# Altium integrated library Newport Power Mgt DC-DC Converter.IntLib: 312 symbols (part 2 of 5)
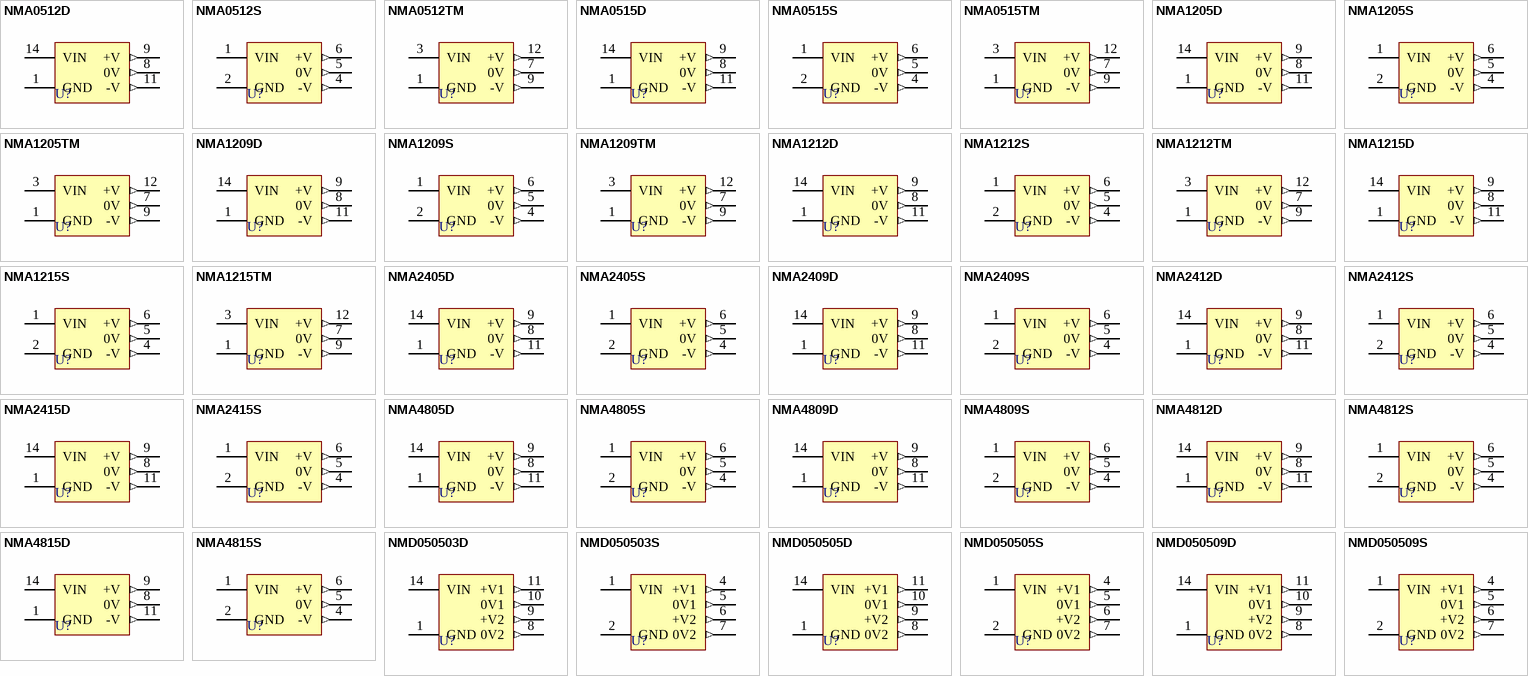
[diagram p8: symbols NMA0512D to NMD050509S]

## NMA2412D
designator U?
Isolated 1W Dual Output; Note: Pin 7 is No Internal Connection (NC) pin and is not drawn. Pins 2-6, 10, 12 and 13 are not present.; Published: 8-Jun-2000; LatestRevisionDate: 17-Jul-2002; LatestRevisionNote: PCB footprint, 'DIP-P6(14)/X1.2' replaced; Re-released for DXP Platform.; DatasheetVersion: Jul-1996; PackageVersion: 1996; PackageReference: NPDIP14; Publisher: Altium Limited; PackageDescription: DIP; 14 Rectangular pins (8 Absent); Row Space 7.62 mm; Pitch 2.54 mm; ComponentLink1Description: Manufacturer Link; ComponentLink1URL: http://www.dc-dc.com/; ComponentLink2Description: Datasheet; ComponentLink2URL: http://www.cd4power.com/data/power/ncl/ndc_nma_3.pdf
footprint NPDIP14 (DIP; 14 Rectangular pins (8 Absent); Row Space 7.62 mm; Pitch 2.54 mm)
pins: 1 GND (power), 8 0V (out), 9 +V (out), 11 -V (out), 14 VIN (power)

## NMA2412S
designator U?
Isolated 1W Dual Output; Note: Pins 3 and 7 are not present.; Published: 8-Jun-2000; LatestRevisionDate: 17-Jul-2002; LatestRevisionNote: Re-released for DXP Platform.; DatasheetVersion: Jul-1996; PackageVersion: 1996; PackageReference: NPSIP7; Publisher: Altium Limited; PackageDescription: SIP; 7 Leads (2 Absent); Body 19.5 x 6 mm (LxW typ); Pitch 2.54 mm; ComponentLink1Description: Manufacturer Link; ComponentLink1URL: http://www.dc-dc.com/; ComponentLink2Description: Datasheet; ComponentLink2URL: http://www.cd4power.com/data/power/ncl/ndc_nma_3.pdf
footprint NPSIP7 (SIP; 7 Leads (2 Absent); Body 19.5 x 6 mm (LxW typ); Pitch 2.54 mm)
pins: 1 VIN (power), 2 GND (power), 4 -V (out), 5 0V (out), 6 +V (out)

## NMA2415D
designator U?
Isolated 1W Dual Output; Note: Pin 7 is No Internal Connection (NC) pin and is not drawn. Pins 2-6, 10, 12 and 13 are not present.; Published: 8-Jun-2000; LatestRevisionDate: 17-Jul-2002; LatestRevisionNote: PCB footprint, 'DIP-P6(14)/X1.2' replaced; Re-released for DXP Platform.; DatasheetVersion: Jul-1996; PackageVersion: 1996; PackageReference: NPDIP14; Publisher: Altium Limited; PackageDescription: DIP; 14 Rectangular pins (8 Absent); Row Space 7.62 mm; Pitch 2.54 mm; ComponentLink1Description: Manufacturer Link; ComponentLink1URL: http://www.dc-dc.com/; ComponentLink2Description: Datasheet; ComponentLink2URL: http://www.cd4power.com/data/power/ncl/ndc_nma_3.pdf
footprint NPDIP14 (DIP; 14 Rectangular pins (8 Absent); Row Space 7.62 mm; Pitch 2.54 mm)
pins: 1 GND (power), 8 0V (out), 9 +V (out), 11 -V (out), 14 VIN (power)

## NMA2415S
designator U?
Isolated 1W Dual Output; Note: Pins 3 and 7 are not present.; Published: 8-Jun-2000; LatestRevisionDate: 17-Jul-2002; LatestRevisionNote: Re-released for DXP Platform.; DatasheetVersion: Jul-1996; PackageVersion: 1996; PackageReference: NPSIP7; Publisher: Altium Limited; PackageDescription: SIP; 7 Leads (2 Absent); Body 19.5 x 6 mm (LxW typ); Pitch 2.54 mm; ComponentLink1Description: Manufacturer Link; ComponentLink1URL: http://www.dc-dc.com/; ComponentLink2Description: Datasheet; ComponentLink2URL: http://www.cd4power.com/data/power/ncl/ndc_nma_3.pdf
footprint NPSIP7 (SIP; 7 Leads (2 Absent); Body 19.5 x 6 mm (LxW typ); Pitch 2.54 mm)
pins: 1 VIN (power), 2 GND (power), 4 -V (out), 5 0V (out), 6 +V (out)

## NMA4805D
designator U?
Isolated 1W Dual Output; Note: Pin 7 is No Internal Connection (NC) pin and is not drawn. Pins 2-6, 10, 12 and 13 are not present.; Published: 8-Jun-2000; LatestRevisionDate: 17-Jul-2002; LatestRevisionNote: PCB footprint, 'DIP-P6(14)/X1.2' replaced; Re-released for DXP Platform.; DatasheetVersion: Jul-1996; PackageVersion: 1996; PackageReference: NPDIP14A; Publisher: Altium Limited; PackageDescription: DIP; 14 Rectangular pins (8 Absent); Row Space 7.62 mm; Pitch 2.54 mm; ComponentLink1Description: Manufacturer Link; ComponentLink1URL: http://www.dc-dc.com/; ComponentLink2Description: Datasheet; ComponentLink2URL: http://www.cd4power.com/data/power/ncl/ndc_nma_3.pdf
footprint NPDIP14A (DIP; 14 Rectangular pins (8 Absent); Row Space 7.62 mm; Pitch 2.54 mm)
pins: 1 GND (power), 8 0V (out), 9 +V (out), 11 -V (out), 14 VIN (power)

## NMA4805S
designator U?
Isolated 1W Dual Output; Note: Pins 3 and 7 are not present.; Published: 8-Jun-2000; LatestRevisionDate: 17-Jul-2002; LatestRevisionNote: Re-released for DXP Platform.; DatasheetVersion: Jul-1996; PackageVersion: 1996; PackageReference: NPSIP7A; Publisher: Altium Limited; PackageDescription: SIP; 7 Leads (2 Absent); Body 19.5 x 7.6 mm (LxW typ); Pitch 2.54 mm; ComponentLink1Description: Manufacturer Link; ComponentLink1URL: http://www.dc-dc.com/; ComponentLink2Description: Datasheet; ComponentLink2URL: http://www.cd4power.com/data/power/ncl/ndc_nma_3.pdf
footprint NPSIP7A (SIP; 7 Leads (2 Absent); Body 19.5 x 7.6 mm (LxW typ); Pitch 2.54 mm)
pins: 1 VIN (power), 2 GND (power), 4 -V (out), 5 0V (out), 6 +V (out)

## NMA4809D
designator U?
Isolated 1W Dual Output; Note: Pin 7 is No Internal Connection (NC) pin and is not drawn. Pins 2-6, 10, 12 and 13 are not present.; Published: 8-Jun-2000; LatestRevisionDate: 17-Jul-2002; LatestRevisionNote: PCB footprint, 'DIP-P6(14)/X1.2' replaced; Re-released for DXP Platform.; DatasheetVersion: Jul-1996; PackageVersion: 1996; PackageReference: NPDIP14A; Publisher: Altium Limited; PackageDescription: DIP; 14 Rectangular pins (8 Absent); Row Space 7.62 mm; Pitch 2.54 mm; ComponentLink1Description: Manufacturer Link; ComponentLink1URL: http://www.dc-dc.com/; ComponentLink2Description: Datasheet; ComponentLink2URL: http://www.cd4power.com/data/power/ncl/ndc_nma_3.pdf
footprint NPDIP14A (DIP; 14 Rectangular pins (8 Absent); Row Space 7.62 mm; Pitch 2.54 mm)
pins: 1 GND (power), 8 0V (out), 9 +V (out), 11 -V (out), 14 VIN (power)

## NMA4809S
designator U?
Isolated 1W Dual Output; Note: Pins 3 and 7 are not present.; Published: 8-Jun-2000; LatestRevisionDate: 17-Jul-2002; LatestRevisionNote: Re-released for DXP Platform.; DatasheetVersion: Jul-1996; PackageVersion: 1996; PackageReference: NPSIP7A; Publisher: Altium Limited; PackageDescription: SIP; 7 Leads (2 Absent); Body 19.5 x 7.6 mm (LxW typ); Pitch 2.54 mm; ComponentLink1Description: Manufacturer Link; ComponentLink1URL: http://www.dc-dc.com/; ComponentLink2Description: Datasheet; ComponentLink2URL: http://www.cd4power.com/data/power/ncl/ndc_nma_3.pdf
footprint NPSIP7A (SIP; 7 Leads (2 Absent); Body 19.5 x 7.6 mm (LxW typ); Pitch 2.54 mm)
pins: 1 VIN (power), 2 GND (power), 4 -V (out), 5 0V (out), 6 +V (out)

## NMA4812D
designator U?
Isolated 1W Dual Output; Note: Pin 7 is No Internal Connection (NC) pin and is not drawn. Pins 2-6, 10, 12 and 13 are not present.; Published: 8-Jun-2000; LatestRevisionDate: 17-Jul-2002; LatestRevisionNote: PCB footprint, 'DIP-P6(14)/X1.2' replaced; Re-released for DXP Platform.; DatasheetVersion: Jul-1996; PackageVersion: 1996; PackageReference: NPDIP14A; Publisher: Altium Limited; PackageDescription: DIP; 14 Rectangular pins (8 Absent); Row Space 7.62 mm; Pitch 2.54 mm; ComponentLink1Description: Manufacturer Link; ComponentLink1URL: http://www.dc-dc.com/; ComponentLink2Description: Datasheet; ComponentLink2URL: http://www.cd4power.com/data/power/ncl/ndc_nma_3.pdf
footprint NPDIP14A (DIP; 14 Rectangular pins (8 Absent); Row Space 7.62 mm; Pitch 2.54 mm)
pins: 1 GND (power), 8 0V (out), 9 +V (out), 11 -V (out), 14 VIN (power)

## NMA4812S
designator U?
Isolated 1W Dual Output; Note: Pins 3 and 7 are not present.; Published: 8-Jun-2000; LatestRevisionDate: 17-Jul-2002; LatestRevisionNote: Re-released for DXP Platform.; DatasheetVersion: Jul-1996; PackageVersion: 1996; PackageReference: NPSIP7A; Publisher: Altium Limited; PackageDescription: SIP; 7 Leads (2 Absent); Body 19.5 x 7.6 mm (LxW typ); Pitch 2.54 mm; ComponentLink1Description: Manufacturer Link; ComponentLink1URL: http://www.dc-dc.com/; ComponentLink2Description: Datasheet; ComponentLink2URL: http://www.cd4power.com/data/power/ncl/ndc_nma_3.pdf
footprint NPSIP7A (SIP; 7 Leads (2 Absent); Body 19.5 x 7.6 mm (LxW typ); Pitch 2.54 mm)
pins: 1 VIN (power), 2 GND (power), 4 -V (out), 5 0V (out), 6 +V (out)

## NMA4815D
designator U?
Isolated 1W Dual Output; Note: Pin 7 is No Internal Connection (NC) pin and is not drawn. Pins 2-6, 10, 12 and 13 are not present.; Published: 8-Jun-2000; LatestRevisionDate: 17-Jul-2002; LatestRevisionNote: PCB footprint, 'DIP-P6(14)/X1.2' replaced; Re-released for DXP Platform.; DatasheetVersion: Jul-1996; PackageVersion: 1996; PackageReference: NPDIP14A; Publisher: Altium Limited; PackageDescription: DIP; 14 Rectangular pins (8 Absent); Row Space 7.62 mm; Pitch 2.54 mm; ComponentLink1Description: Manufacturer Link; ComponentLink1URL: http://www.dc-dc.com/; ComponentLink2Description: Datasheet; ComponentLink2URL: http://www.cd4power.com/data/power/ncl/ndc_nma_3.pdf
footprint NPDIP14A (DIP; 14 Rectangular pins (8 Absent); Row Space 7.62 mm; Pitch 2.54 mm)
pins: 1 GND (power), 8 0V (out), 9 +V (out), 11 -V (out), 14 VIN (power)

## NMA4815S
designator U?
Isolated 1W Dual Output; Note: Pins 3 and 7 are not present.; Published: 8-Jun-2000; LatestRevisionDate: 17-Jul-2002; LatestRevisionNote: Re-released for DXP Platform.; DatasheetVersion: Jul-1996; PackageVersion: 1996; PackageReference: NPSIP7A; Publisher: Altium Limited; PackageDescription: SIP; 7 Leads (2 Absent); Body 19.5 x 7.6 mm (LxW typ); Pitch 2.54 mm; ComponentLink1Description: Manufacturer Link; ComponentLink1URL: http://www.dc-dc.com/; ComponentLink2Description: Datasheet; ComponentLink2URL: http://www.cd4power.com/data/power/ncl/ndc_nma_3.pdf
footprint NPSIP7A (SIP; 7 Leads (2 Absent); Body 19.5 x 7.6 mm (LxW typ); Pitch 2.54 mm)
pins: 1 VIN (power), 2 GND (power), 4 -V (out), 5 0V (out), 6 +V (out)

## NMD050503D
designator U?
Isolated 1W Twin Output; Note: Pin 7 is No Internal Connection (NC) pin and is not drawn. Pins 2-6, 12 and 13 are not present.; Published: 8-Jun-2000; LatestRevisionDate: 17-Jul-2002; LatestRevisionNote: Re-released for DXP Platform.; DatasheetVersion: Jul-1996; PackageVersion: 1996; PackageReference: NPDIP14B; Publisher: Altium Limited; PackageDescription: DIP; 14 Rectangular pins (7 Absent); Row Space 7.62 mm; Pitch 2.54 mm; ComponentLink1Description: Manufacturer Link; ComponentLink1URL: http://www.dc-dc.com/; ComponentLink2Description: Datasheet; ComponentLink2URL: http://www.cd4power.com/data/power/ncl/ndc_nmd_3.pdf
footprint NPDIP14B (DIP; 14 Rectangular pins (7 Absent); Row Space 7.62 mm; Pitch 2.54 mm)
pins: 1 GND (power), 8 0V2 (out), 9 +V2 (out), 10 0V1 (out), 11 +V1 (out), 14 VIN (power)

## NMD050503S
designator U?
Isolated 1W Twin Output; Note: Pin 3 is not present.; Published: 8-Jun-2000; LatestRevisionDate: 17-Jul-2002; LatestRevisionNote: Re-released for DXP Platform.; DatasheetVersion: Jul-1996; PackageVersion: 1996; PackageReference: NPSIP7B; Publisher: Altium Limited; PackageDescription: SIP; 7 Leads (1 Absent); Body 19.5 x 6 mm (LxW typ); Pitch 2.54 mm; ComponentLink1Description: Manufacturer Link; ComponentLink1URL: http://www.dc-dc.com/; ComponentLink2Description: Datasheet; ComponentLink2URL: http://www.cd4power.com/data/power/ncl/ndc_nmd_3.pdf
footprint NPSIP7B (SIP; 7 Leads (1 Absent); Body 19.5 x 6 mm (LxW typ); Pitch 2.54 mm)
pins: 1 VIN (power), 2 GND (power), 4 +V1 (out), 5 0V1 (out), 6 +V2 (out), 7 0V2 (out)

## NMD050505D
designator U?
Isolated 1W Twin Output; Note: Pin 7 is No Internal Connection (NC) pin and is not drawn. Pins 2-6, 12 and 13 are not present.; Published: 8-Jun-2000; LatestRevisionDate: 17-Jul-2002; LatestRevisionNote: Re-released for DXP Platform.; DatasheetVersion: Jul-1996; PackageVersion: 1996; PackageReference: NPDIP14B; Publisher: Altium Limited; PackageDescription: DIP; 14 Rectangular pins (7 Absent); Row Space 7.62 mm; Pitch 2.54 mm; ComponentLink1Description: Manufacturer Link; ComponentLink1URL: http://www.dc-dc.com/; ComponentLink2Description: Datasheet; ComponentLink2URL: http://www.cd4power.com/data/power/ncl/ndc_nmd_3.pdf
footprint NPDIP14B (DIP; 14 Rectangular pins (7 Absent); Row Space 7.62 mm; Pitch 2.54 mm)
pins: 1 GND (power), 8 0V2 (out), 9 +V2 (out), 10 0V1 (out), 11 +V1 (out), 14 VIN (power)

## NMD050505S
designator U?
Isolated 1W Twin Output; Note: Pin 3 is not present.; Published: 8-Jun-2000; LatestRevisionDate: 17-Jul-2002; LatestRevisionNote: Re-released for DXP Platform.; DatasheetVersion: Jul-1996; PackageVersion: 1996; PackageReference: NPSIP7B; Publisher: Altium Limited; PackageDescription: SIP; 7 Leads (1 Absent); Body 19.5 x 6 mm (LxW typ); Pitch 2.54 mm; ComponentLink1Description: Manufacturer Link; ComponentLink1URL: http://www.dc-dc.com/; ComponentLink2Description: Datasheet; ComponentLink2URL: http://www.cd4power.com/data/power/ncl/ndc_nmd_3.pdf
footprint NPSIP7B (SIP; 7 Leads (1 Absent); Body 19.5 x 6 mm (LxW typ); Pitch 2.54 mm)
pins: 1 VIN (power), 2 GND (power), 4 +V1 (out), 5 0V1 (out), 6 +V2 (out), 7 0V2 (out)

## NMD050509D
designator U?
Isolated 1W Twin Output; Note: Pin 7 is No Internal Connection (NC) pin and is not drawn. Pins 2-6, 12 and 13 are not present.; Published: 8-Jun-2000; LatestRevisionDate: 17-Jul-2002; LatestRevisionNote: Re-released for DXP Platform.; DatasheetVersion: Jul-1996; PackageVersion: 1996; PackageReference: NPDIP14B; Publisher: Altium Limited; PackageDescription: DIP; 14 Rectangular pins (7 Absent); Row Space 7.62 mm; Pitch 2.54 mm; ComponentLink1Description: Manufacturer Link; ComponentLink1URL: http://www.dc-dc.com/; ComponentLink2Description: Datasheet; ComponentLink2URL: http://www.cd4power.com/data/power/ncl/ndc_nmd_3.pdf
footprint NPDIP14B (DIP; 14 Rectangular pins (7 Absent); Row Space 7.62 mm; Pitch 2.54 mm)
pins: 1 GND (power), 8 0V2 (out), 9 +V2 (out), 10 0V1 (out), 11 +V1 (out), 14 VIN (power)

## NMD050509S
designator U?
Isolated 1W Twin Output; Note: Pin 3 is not present.; Published: 8-Jun-2000; LatestRevisionDate: 17-Jul-2002; LatestRevisionNote: Re-released for DXP Platform.; DatasheetVersion: Jul-1996; PackageVersion: 1996; PackageReference: NPSIP7B; Publisher: Altium Limited; PackageDescription: SIP; 7 Leads (1 Absent); Body 19.5 x 6 mm (LxW typ); Pitch 2.54 mm; ComponentLink1Description: Manufacturer Link; ComponentLink1URL: http://www.dc-dc.com/; ComponentLink2Description: Datasheet; ComponentLink2URL: http://www.cd4power.com/data/power/ncl/ndc_nmd_3.pdf
footprint NPSIP7B (SIP; 7 Leads (1 Absent); Body 19.5 x 6 mm (LxW typ); Pitch 2.54 mm)
pins: 1 VIN (power), 2 GND (power), 4 +V1 (out), 5 0V1 (out), 6 +V2 (out), 7 0V2 (out)

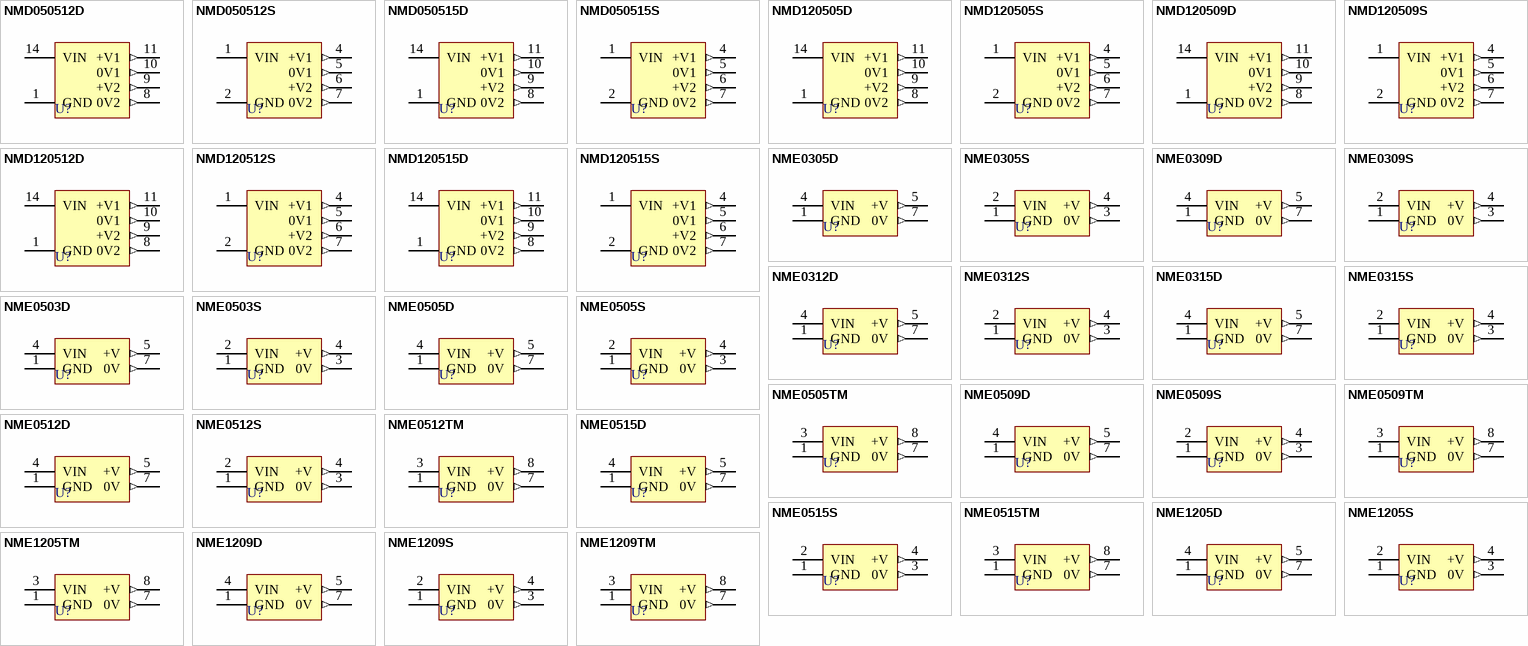
[diagram p2: symbols NMD050512D to NME1209TM]

## NMD050512D
designator U?
Isolated 1W Twin Output; Note: Pin 7 is No Internal Connection (NC) pin and is not drawn. Pins 2-6, 12 and 13 are not present.; Published: 8-Jun-2000; LatestRevisionDate: 17-Jul-2002; LatestRevisionNote: Re-released for DXP Platform.; DatasheetVersion: Jul-1996; PackageVersion: 1996; PackageReference: NPDIP14B; Publisher: Altium Limited; PackageDescription: DIP; 14 Rectangular pins (7 Absent); Row Space 7.62 mm; Pitch 2.54 mm; ComponentLink1Description: Manufacturer Link; ComponentLink1URL: http://www.dc-dc.com/; ComponentLink2Description: Datasheet; ComponentLink2URL: http://www.cd4power.com/data/power/ncl/ndc_nmd_3.pdf
footprint NPDIP14B (DIP; 14 Rectangular pins (7 Absent); Row Space 7.62 mm; Pitch 2.54 mm)
pins: 1 GND (power), 8 0V2 (out), 9 +V2 (out), 10 0V1 (out), 11 +V1 (out), 14 VIN (power)

## NMD050512S
designator U?
Isolated 1W Twin Output; Note: Pin 3 is not present.; Published: 8-Jun-2000; LatestRevisionDate: 17-Jul-2002; LatestRevisionNote: Re-released for DXP Platform.; DatasheetVersion: Jul-1996; PackageVersion: 1996; PackageReference: NPSIP7B; Publisher: Altium Limited; PackageDescription: SIP; 7 Leads (1 Absent); Body 19.5 x 6 mm (LxW typ); Pitch 2.54 mm; ComponentLink1Description: Manufacturer Link; ComponentLink1URL: http://www.dc-dc.com/; ComponentLink2Description: Datasheet; ComponentLink2URL: http://www.cd4power.com/data/power/ncl/ndc_nmd_3.pdf
footprint NPSIP7B (SIP; 7 Leads (1 Absent); Body 19.5 x 6 mm (LxW typ); Pitch 2.54 mm)
pins: 1 VIN (power), 2 GND (power), 4 +V1 (out), 5 0V1 (out), 6 +V2 (out), 7 0V2 (out)

## NMD050515D
designator U?
Isolated 1W Twin Output; Note: Pin 7 is No Internal Connection (NC) pin and is not drawn. Pins 2-6, 12 and 13 are not present.; Published: 8-Jun-2000; LatestRevisionDate: 17-Jul-2002; LatestRevisionNote: Re-released for DXP Platform.; DatasheetVersion: Jul-1996; PackageVersion: 1996; PackageReference: NPDIP14B; Publisher: Altium Limited; PackageDescription: DIP; 14 Rectangular pins (7 Absent); Row Space 7.62 mm; Pitch 2.54 mm; ComponentLink1Description: Manufacturer Link; ComponentLink1URL: http://www.dc-dc.com/; ComponentLink2Description: Datasheet; ComponentLink2URL: http://www.cd4power.com/data/power/ncl/ndc_nmd_3.pdf
footprint NPDIP14B (DIP; 14 Rectangular pins (7 Absent); Row Space 7.62 mm; Pitch 2.54 mm)
pins: 1 GND (power), 8 0V2 (out), 9 +V2 (out), 10 0V1 (out), 11 +V1 (out), 14 VIN (power)

## NMD050515S
designator U?
Isolated 1W Twin Output; Note: Pin 3 is not present.; Published: 8-Jun-2000; LatestRevisionDate: 17-Jul-2002; LatestRevisionNote: Re-released for DXP Platform.; DatasheetVersion: Jul-1996; PackageVersion: 1996; PackageReference: NPSIP7B; Publisher: Altium Limited; PackageDescription: SIP; 7 Leads (1 Absent); Body 19.5 x 6 mm (LxW typ); Pitch 2.54 mm; ComponentLink1Description: Manufacturer Link; ComponentLink1URL: http://www.dc-dc.com/; ComponentLink2Description: Datasheet; ComponentLink2URL: http://www.cd4power.com/data/power/ncl/ndc_nmd_3.pdf
footprint NPSIP7B (SIP; 7 Leads (1 Absent); Body 19.5 x 6 mm (LxW typ); Pitch 2.54 mm)
pins: 1 VIN (power), 2 GND (power), 4 +V1 (out), 5 0V1 (out), 6 +V2 (out), 7 0V2 (out)

## NMD120505D
designator U?
Isolated 1W Twin Output; Note: Pin 7 is No Internal Connection (NC) pin and is not drawn. Pins 2-6, 12 and 13 are not present.; Published: 8-Jun-2000; LatestRevisionDate: 17-Jul-2002; LatestRevisionNote: Re-released for DXP Platform.; DatasheetVersion: Jul-1996; PackageVersion: 1996; PackageReference: NPDIP14B; Publisher: Altium Limited; PackageDescription: DIP; 14 Rectangular pins (7 Absent); Row Space 7.62 mm; Pitch 2.54 mm; ComponentLink1Description: Manufacturer Link; ComponentLink1URL: http://www.dc-dc.com/; ComponentLink2Description: Datasheet; ComponentLink2URL: http://www.cd4power.com/data/power/ncl/ndc_nmd_3.pdf
footprint NPDIP14B (DIP; 14 Rectangular pins (7 Absent); Row Space 7.62 mm; Pitch 2.54 mm)
pins: 1 GND (power), 8 0V2 (out), 9 +V2 (out), 10 0V1 (out), 11 +V1 (out), 14 VIN (power)

## NMD120505S
designator U?
Isolated 1W Twin Output; Note: Pin 3 is not present.; Published: 8-Jun-2000; LatestRevisionDate: 17-Jul-2002; LatestRevisionNote: Re-released for DXP Platform.; DatasheetVersion: Jul-1996; PackageVersion: 1996; PackageReference: NPSIP7B; Publisher: Altium Limited; PackageDescription: SIP; 7 Leads (1 Absent); Body 19.5 x 6 mm (LxW typ); Pitch 2.54 mm; ComponentLink1Description: Manufacturer Link; ComponentLink1URL: http://www.dc-dc.com/; ComponentLink2Description: Datasheet; ComponentLink2URL: http://www.cd4power.com/data/power/ncl/ndc_nmd_3.pdf
footprint NPSIP7B (SIP; 7 Leads (1 Absent); Body 19.5 x 6 mm (LxW typ); Pitch 2.54 mm)
pins: 1 VIN (power), 2 GND (power), 4 +V1 (out), 5 0V1 (out), 6 +V2 (out), 7 0V2 (out)

## NMD120509D
designator U?
Isolated 1W Twin Output; Note: Pin 7 is No Internal Connection (NC) pin and is not drawn. Pins 2-6, 12 and 13 are not present.; Published: 8-Jun-2000; LatestRevisionDate: 17-Jul-2002; LatestRevisionNote: Re-released for DXP Platform.; DatasheetVersion: Jul-1996; PackageVersion: 1996; PackageReference: NPDIP14B; Publisher: Altium Limited; PackageDescription: DIP; 14 Rectangular pins (7 Absent); Row Space 7.62 mm; Pitch 2.54 mm; ComponentLink1Description: Manufacturer Link; ComponentLink1URL: http://www.dc-dc.com/; ComponentLink2Description: Datasheet; ComponentLink2URL: http://www.cd4power.com/data/power/ncl/ndc_nmd_3.pdf
footprint NPDIP14B (DIP; 14 Rectangular pins (7 Absent); Row Space 7.62 mm; Pitch 2.54 mm)
pins: 1 GND (power), 8 0V2 (out), 9 +V2 (out), 10 0V1 (out), 11 +V1 (out), 14 VIN (power)

## NMD120509S
designator U?
Isolated 1W Twin Output; Note: Pin 3 is not present.; Published: 8-Jun-2000; LatestRevisionDate: 17-Jul-2002; LatestRevisionNote: Re-released for DXP Platform.; DatasheetVersion: Jul-1996; PackageVersion: 1996; PackageReference: NPSIP7B; Publisher: Altium Limited; PackageDescription: SIP; 7 Leads (1 Absent); Body 19.5 x 6 mm (LxW typ); Pitch 2.54 mm; ComponentLink1Description: Manufacturer Link; ComponentLink1URL: http://www.dc-dc.com/; ComponentLink2Description: Datasheet; ComponentLink2URL: http://www.cd4power.com/data/power/ncl/ndc_nmd_3.pdf
footprint NPSIP7B (SIP; 7 Leads (1 Absent); Body 19.5 x 6 mm (LxW typ); Pitch 2.54 mm)
pins: 1 VIN (power), 2 GND (power), 4 +V1 (out), 5 0V1 (out), 6 +V2 (out), 7 0V2 (out)

## NMD120512D
designator U?
Isolated 1W Twin Output; Note: Pin 7 is No Internal Connection (NC) pin and is not drawn. Pins 2-6, 12 and 13 are not present.; Published: 8-Jun-2000; LatestRevisionDate: 17-Jul-2002; LatestRevisionNote: Re-released for DXP Platform.; DatasheetVersion: Jul-1996; PackageVersion: 1996; PackageReference: NPDIP14B; Publisher: Altium Limited; PackageDescription: DIP; 14 Rectangular pins (7 Absent); Row Space 7.62 mm; Pitch 2.54 mm; ComponentLink1Description: Manufacturer Link; ComponentLink1URL: http://www.dc-dc.com/; ComponentLink2Description: Datasheet; ComponentLink2URL: http://www.cd4power.com/data/power/ncl/ndc_nmd_3.pdf
footprint NPDIP14B (DIP; 14 Rectangular pins (7 Absent); Row Space 7.62 mm; Pitch 2.54 mm)
pins: 1 GND (power), 8 0V2 (out), 9 +V2 (out), 10 0V1 (out), 11 +V1 (out), 14 VIN (power)

## NMD120512S
designator U?
Isolated 1W Twin Output; Note: Pin 3 is not present.; Published: 8-Jun-2000; LatestRevisionDate: 17-Jul-2002; LatestRevisionNote: Re-released for DXP Platform.; DatasheetVersion: Jul-1996; PackageVersion: 1996; PackageReference: NPSIP7B; Publisher: Altium Limited; PackageDescription: SIP; 7 Leads (1 Absent); Body 19.5 x 6 mm (LxW typ); Pitch 2.54 mm; ComponentLink1Description: Manufacturer Link; ComponentLink1URL: http://www.dc-dc.com/; ComponentLink2Description: Datasheet; ComponentLink2URL: http://www.cd4power.com/data/power/ncl/ndc_nmd_3.pdf
footprint NPSIP7B (SIP; 7 Leads (1 Absent); Body 19.5 x 6 mm (LxW typ); Pitch 2.54 mm)
pins: 1 VIN (power), 2 GND (power), 4 +V1 (out), 5 0V1 (out), 6 +V2 (out), 7 0V2 (out)

## NMD120515D
designator U?
Isolated 1W Twin Output; Note: Pin 7 is No Internal Connection (NC) pin and is not drawn. Pins 2-6, 12 and 13 are not present.; Published: 8-Jun-2000; LatestRevisionDate: 17-Jul-2002; LatestRevisionNote: Re-released for DXP Platform.; DatasheetVersion: Jul-1996; PackageVersion: 1996; PackageReference: NPDIP14B; Publisher: Altium Limited; PackageDescription: DIP; 14 Rectangular pins (7 Absent); Row Space 7.62 mm; Pitch 2.54 mm; ComponentLink1Description: Manufacturer Link; ComponentLink1URL: http://www.dc-dc.com/; ComponentLink2Description: Datasheet; ComponentLink2URL: http://www.cd4power.com/data/power/ncl/ndc_nmd_3.pdf
footprint NPDIP14B (DIP; 14 Rectangular pins (7 Absent); Row Space 7.62 mm; Pitch 2.54 mm)
pins: 1 GND (power), 8 0V2 (out), 9 +V2 (out), 10 0V1 (out), 11 +V1 (out), 14 VIN (power)

## NMD120515S
designator U?
Isolated 1W Twin Output; Note: Pin 3 is not present.; Published: 8-Jun-2000; LatestRevisionDate: 17-Jul-2002; LatestRevisionNote: Re-released for DXP Platform.; DatasheetVersion: Jul-1996; PackageVersion: 1996; PackageReference: NPSIP7B; Publisher: Altium Limited; PackageDescription: SIP; 7 Leads (1 Absent); Body 19.5 x 6 mm (LxW typ); Pitch 2.54 mm; ComponentLink1Description: Manufacturer Link; ComponentLink1URL: http://www.dc-dc.com/; ComponentLink2Description: Datasheet; ComponentLink2URL: http://www.cd4power.com/data/power/ncl/ndc_nmd_3.pdf
footprint NPSIP7B (SIP; 7 Leads (1 Absent); Body 19.5 x 6 mm (LxW typ); Pitch 2.54 mm)
pins: 1 VIN (power), 2 GND (power), 4 +V1 (out), 5 0V1 (out), 6 +V2 (out), 7 0V2 (out)

## NME0305D
designator U?
Isolated 1W Single Output; Note: Pins 2, 3, 6 and 8 are not present.; Published: 8-Jun-2000; LatestRevisionDate: 17-Jul-2002; LatestRevisionNote: Re-released for DXP Platform.; DatasheetVersion: Jul-1996; PackageVersion: 1996; PackageReference: NPDIP8; Publisher: Altium Limited; PackageDescription: DIP; 8 Rectangular pins (4 Absent); Row Space 7.62 mm; Pitch 2.54 mm; ComponentLink1Description: Manufacturer Link; ComponentLink1URL: http://www.dc-dc.com/; ComponentLink2Description: Datasheet; ComponentLink2URL: http://www.cd4power.com/data/power/ncl/ndc_nma_3.pdf
footprint NPDIP8 (DIP; 8 Rectangular pins (4 Absent); Row Space 7.62 mm; Pitch 2.54 mm)
pins: 1 GND (power), 4 VIN (power), 5 +V (out), 7 0V (out)

## NME0305S
designator U?
Isolated 1W Single Output; Published: 8-Jun-2000; LatestRevisionDate: 17-Jul-2002; LatestRevisionNote: Re-released for DXP Platform.; DatasheetVersion: Jul-1996; PackageVersion: 1996; PackageReference: NPSIP4; Publisher: Altium Limited; PackageDescription: SIP; 4 Leads; Body 10 x 11.5 x 6 mm (typ); Pitch 2.54 mm; ComponentLink1Description: Manufacturer Link; ComponentLink1URL: http://www.dc-dc.com/; ComponentLink2Description: Datasheet; ComponentLink2URL: http://www.cd4power.com/data/power/ncl/ndc_nma_3.pdf
footprint NPSIP4 (SIP; 4 Leads; Body 10 x 11.5 x 6 mm (typ); Pitch 2.54 mm)
pins: 1 GND (power), 2 VIN (power), 3 0V (out), 4 +V (out)

## NME0309D
designator U?
Isolated 1W Single Output; Note: Pins 2, 3, 6 and 8 are not present.; Published: 8-Jun-2000; LatestRevisionDate: 17-Jul-2002; LatestRevisionNote: Re-released for DXP Platform.; DatasheetVersion: Jul-1996; PackageVersion: 1996; PackageReference: NPDIP8; Publisher: Altium Limited; PackageDescription: DIP; 8 Rectangular pins (4 Absent); Row Space 7.62 mm; Pitch 2.54 mm; ComponentLink1Description: Manufacturer Link; ComponentLink1URL: http://www.dc-dc.com/; ComponentLink2Description: Datasheet; ComponentLink2URL: http://www.cd4power.com/data/power/ncl/ndc_nma_3.pdf
footprint NPDIP8 (DIP; 8 Rectangular pins (4 Absent); Row Space 7.62 mm; Pitch 2.54 mm)
pins: 1 GND (power), 4 VIN (power), 5 +V (out), 7 0V (out)

## NME0309S
designator U?
Isolated 1W Single Output; Published: 8-Jun-2000; LatestRevisionDate: 17-Jul-2002; LatestRevisionNote: Re-released for DXP Platform.; DatasheetVersion: Jul-1996; PackageVersion: 1996; PackageReference: NPSIP4; Publisher: Altium Limited; PackageDescription: SIP; 4 Leads; Body 10 x 11.5 x 6 mm (typ); Pitch 2.54 mm; ComponentLink1Description: Manufacturer Link; ComponentLink1URL: http://www.dc-dc.com/; ComponentLink2Description: Datasheet; ComponentLink2URL: http://www.cd4power.com/data/power/ncl/ndc_nma_3.pdf
footprint NPSIP4 (SIP; 4 Leads; Body 10 x 11.5 x 6 mm (typ); Pitch 2.54 mm)
pins: 1 GND (power), 2 VIN (power), 3 0V (out), 4 +V (out)

## NME0312D
designator U?
Isolated 1W Single Output; Note: Pins 2, 3, 6 and 8 are not present.; Published: 8-Jun-2000; LatestRevisionDate: 17-Jul-2002; LatestRevisionNote: Re-released for DXP Platform.; DatasheetVersion: Jul-1996; PackageVersion: 1996; PackageReference: NPDIP8; Publisher: Altium Limited; PackageDescription: DIP; 8 Rectangular pins (4 Absent); Row Space 7.62 mm; Pitch 2.54 mm; ComponentLink1Description: Manufacturer Link; ComponentLink1URL: http://www.dc-dc.com/; ComponentLink2Description: Datasheet; ComponentLink2URL: http://www.cd4power.com/data/power/ncl/ndc_nma_3.pdf
footprint NPDIP8 (DIP; 8 Rectangular pins (4 Absent); Row Space 7.62 mm; Pitch 2.54 mm)
pins: 1 GND (power), 4 VIN (power), 5 +V (out), 7 0V (out)

## NME0312S
designator U?
Isolated 1W Single Output; Published: 8-Jun-2000; LatestRevisionDate: 17-Jul-2002; LatestRevisionNote: Re-released for DXP Platform.; DatasheetVersion: Jul-1996; PackageVersion: 1996; PackageReference: NPSIP4; Publisher: Altium Limited; PackageDescription: SIP; 4 Leads; Body 10 x 11.5 x 6 mm (typ); Pitch 2.54 mm; ComponentLink1Description: Manufacturer Link; ComponentLink1URL: http://www.dc-dc.com/; ComponentLink2Description: Datasheet; ComponentLink2URL: http://www.cd4power.com/data/power/ncl/ndc_nma_3.pdf
footprint NPSIP4 (SIP; 4 Leads; Body 10 x 11.5 x 6 mm (typ); Pitch 2.54 mm)
pins: 1 GND (power), 2 VIN (power), 3 0V (out), 4 +V (out)

## NME0315D
designator U?
Isolated 1W Single Output; Note: Pins 2, 3, 6 and 8 are not present.; Published: 8-Jun-2000; LatestRevisionDate: 17-Jul-2002; LatestRevisionNote: Re-released for DXP Platform.; DatasheetVersion: Jul-1996; PackageVersion: 1996; PackageReference: NPDIP8; Publisher: Altium Limited; PackageDescription: DIP; 8 Rectangular pins (4 Absent); Row Space 7.62 mm; Pitch 2.54 mm; ComponentLink1Description: Manufacturer Link; ComponentLink1URL: http://www.dc-dc.com/; ComponentLink2Description: Datasheet; ComponentLink2URL: http://www.cd4power.com/data/power/ncl/ndc_nma_3.pdf
footprint NPDIP8 (DIP; 8 Rectangular pins (4 Absent); Row Space 7.62 mm; Pitch 2.54 mm)
pins: 1 GND (power), 4 VIN (power), 5 +V (out), 7 0V (out)

## NME0315S
designator U?
Isolated 1W Single Output; Published: 8-Jun-2000; LatestRevisionDate: 17-Jul-2002; LatestRevisionNote: Re-released for DXP Platform.; DatasheetVersion: Jul-1996; PackageVersion: 1996; PackageReference: NPSIP4; Publisher: Altium Limited; PackageDescription: SIP; 4 Leads; Body 10 x 11.5 x 6 mm (typ); Pitch 2.54 mm; ComponentLink1Description: Manufacturer Link; ComponentLink1URL: http://www.dc-dc.com/; ComponentLink2Description: Datasheet; ComponentLink2URL: http://www.cd4power.com/data/power/ncl/ndc_nma_3.pdf
footprint NPSIP4 (SIP; 4 Leads; Body 10 x 11.5 x 6 mm (typ); Pitch 2.54 mm)
pins: 1 GND (power), 2 VIN (power), 3 0V (out), 4 +V (out)

## NME0503D
designator U?
Isolated 1W Single Output; Note: Pins 2, 3, 6 and 8 are not present.; Published: 8-Jun-2000; LatestRevisionDate: 17-Jul-2002; LatestRevisionNote: Re-released for DXP Platform.; DatasheetVersion: Jul-1996; PackageVersion: 1996; PackageReference: NPDIP8; Publisher: Altium Limited; PackageDescription: DIP; 8 Rectangular pins (4 Absent); Row Space 7.62 mm; Pitch 2.54 mm; ComponentLink1Description: Manufacturer Link; ComponentLink1URL: http://www.dc-dc.com/; ComponentLink2Description: Datasheet; ComponentLink2URL: http://www.cd4power.com/data/power/ncl/ndc_nma_3.pdf
footprint NPDIP8 (DIP; 8 Rectangular pins (4 Absent); Row Space 7.62 mm; Pitch 2.54 mm)
pins: 1 GND (power), 4 VIN (power), 5 +V (out), 7 0V (out)

## NME0503S
designator U?
Isolated 1W Single Output; Published: 8-Jun-2000; LatestRevisionDate: 17-Jul-2002; LatestRevisionNote: Re-released for DXP Platform.; DatasheetVersion: Jul-1996; PackageVersion: 1996; PackageReference: NPSIP4; Publisher: Altium Limited; PackageDescription: SIP; 4 Leads; Body 10 x 11.5 x 6 mm (typ); Pitch 2.54 mm; ComponentLink1Description: Manufacturer Link; ComponentLink1URL: http://www.dc-dc.com/; ComponentLink2Description: Datasheet; ComponentLink2URL: http://www.cd4power.com/data/power/ncl/ndc_nma_3.pdf
footprint NPSIP4 (SIP; 4 Leads; Body 10 x 11.5 x 6 mm (typ); Pitch 2.54 mm)
pins: 1 GND (power), 2 VIN (power), 3 0V (out), 4 +V (out)

## NME0505D
designator U?
Isolated 1W Single Output; Note: Pins 2, 3, 6 and 8 are not present.; Published: 8-Jun-2000; LatestRevisionDate: 17-Jul-2002; LatestRevisionNote: Re-released for DXP Platform.; DatasheetVersion: Jul-1996; PackageVersion: 1996; PackageReference: NPDIP8; Publisher: Altium Limited; PackageDescription: DIP; 8 Rectangular pins (4 Absent); Row Space 7.62 mm; Pitch 2.54 mm; ComponentLink1Description: Manufacturer Link; ComponentLink1URL: http://www.dc-dc.com/; ComponentLink2Description: Datasheet; ComponentLink2URL: http://www.cd4power.com/data/power/ncl/ndc_nma_3.pdf
footprint NPDIP8 (DIP; 8 Rectangular pins (4 Absent); Row Space 7.62 mm; Pitch 2.54 mm)
pins: 1 GND (power), 4 VIN (power), 5 +V (out), 7 0V (out)

## NME0505S
designator U?
Isolated 1W Single Output; Published: 8-Jun-2000; LatestRevisionDate: 17-Jul-2002; LatestRevisionNote: Re-released for DXP Platform.; DatasheetVersion: Jul-1996; PackageVersion: 1996; PackageReference: NPSIP4; Publisher: Altium Limited; PackageDescription: SIP; 4 Leads; Body 10 x 11.5 x 6 mm (typ); Pitch 2.54 mm; ComponentLink1Description: Manufacturer Link; ComponentLink1URL: http://www.dc-dc.com/; ComponentLink2Description: Datasheet; ComponentLink2URL: http://www.cd4power.com/data/power/ncl/ndc_nma_3.pdf
footprint NPSIP4 (SIP; 4 Leads; Body 10 x 11.5 x 6 mm (typ); Pitch 2.54 mm)
pins: 1 GND (power), 2 VIN (power), 3 0V (out), 4 +V (out)

## NME0505TM
designator U?
Isolated 1W Single Output Surface Mount; Note: Pin 14 is No Internal Connection (NC) pin and is not drawn.  Pins 2, 4, 5, 6 and 9-13 are not present.; Published: 8-Jun-2000; LatestRevisionDate: 13-Apr-2006; LatestRevisionNote: IPC-7351 Footprint Added.; DatasheetVersion: Jul-1996; PackageVersion: 1996; PackageReference: NPSOIC14; Publisher: Altium Limited; PackageDescription: 14-Pin (9 Absent) Small Outline Package 1.27 mm Pitch; ComponentLink1Description: Manufacturer Link; ComponentLink1URL: http://www.dc-dc.com/; ComponentLink2Description: Datasheet; ComponentLink2URL: http://www.cd4power.com/data/power/ncl/ndc_nme_3.pdf
footprint NPSOIC14_N (SOP, 14-Leads (9 Absent), Body 12.7x7.7mm, Pitch 1.27mm, IPC Medium Density)
footprint NPSOIC14_L (SOP, 14-Leads (9 Absent), Body 12.7x7.7mm, Pitch 1.27mm, IPC High Density)
footprint NPSOIC14_M (SOP, 14-Leads (9 Absent), Body 12.7x7.7mm, Pitch 1.27mm, IPC Low Density)
pins: 1 GND (power), 3 VIN (power), 7 0V (out), 8 +V (out)

## NME0509D
designator U?
Isolated 1W Single Output; Note: Pins 2, 3, 6 and 8 are not present.; Published: 8-Jun-2000; LatestRevisionDate: 17-Jul-2002; LatestRevisionNote: Re-released for DXP Platform.; DatasheetVersion: Jul-1996; PackageVersion: 1996; PackageReference: NPDIP8; Publisher: Altium Limited; PackageDescription: DIP; 8 Rectangular pins (4 Absent); Row Space 7.62 mm; Pitch 2.54 mm; ComponentLink1Description: Manufacturer Link; ComponentLink1URL: http://www.dc-dc.com/; ComponentLink2Description: Datasheet; ComponentLink2URL: http://www.cd4power.com/data/power/ncl/ndc_nma_3.pdf
footprint NPDIP8 (DIP; 8 Rectangular pins (4 Absent); Row Space 7.62 mm; Pitch 2.54 mm)
pins: 1 GND (power), 4 VIN (power), 5 +V (out), 7 0V (out)

## NME0509S
designator U?
Isolated 1W Single Output; Published: 8-Jun-2000; LatestRevisionDate: 17-Jul-2002; LatestRevisionNote: Re-released for DXP Platform.; DatasheetVersion: Jul-1996; PackageVersion: 1996; PackageReference: NPSIP4; Publisher: Altium Limited; PackageDescription: SIP; 4 Leads; Body 10 x 11.5 x 6 mm (typ); Pitch 2.54 mm; ComponentLink1Description: Manufacturer Link; ComponentLink1URL: http://www.dc-dc.com/; ComponentLink2Description: Datasheet; ComponentLink2URL: http://www.cd4power.com/data/power/ncl/ndc_nma_3.pdf
footprint NPSIP4 (SIP; 4 Leads; Body 10 x 11.5 x 6 mm (typ); Pitch 2.54 mm)
pins: 1 GND (power), 2 VIN (power), 3 0V (out), 4 +V (out)

## NME0509TM
designator U?
Isolated 1W Single Output Surface Mount; Note: Pin 14 is No Internal Connection (NC) pin and is not drawn.  Pins 2, 4, 5, 6 and 9-13 are not present.; Published: 8-Jun-2000; LatestRevisionDate: 13-Apr-2006; LatestRevisionNote: IPC-7351 Footprint Added.; DatasheetVersion: Jul-1996; PackageVersion: 1996; PackageReference: NPSOIC14; Publisher: Altium Limited; PackageDescription: 14-Pin (9 Absent) Small Outline Package 1.27 mm Pitch; ComponentLink1Description: Manufacturer Link; ComponentLink1URL: http://www.dc-dc.com/; ComponentLink2Description: Datasheet; ComponentLink2URL: http://www.cd4power.com/data/power/ncl/ndc_nme_3.pdf
footprint NPSOIC14_N (SOP, 14-Leads (9 Absent), Body 12.7x7.7mm, Pitch 1.27mm, IPC Medium Density)
footprint NPSOIC14_L (SOP, 14-Leads (9 Absent), Body 12.7x7.7mm, Pitch 1.27mm, IPC High Density)
footprint NPSOIC14_M (SOP, 14-Leads (9 Absent), Body 12.7x7.7mm, Pitch 1.27mm, IPC Low Density)
pins: 1 GND (power), 3 VIN (power), 7 0V (out), 8 +V (out)

## NME0512D
designator U?
Isolated 1W Single Output; Note: Pins 2, 3, 6 and 8 are not present.; Published: 8-Jun-2000; LatestRevisionDate: 17-Jul-2002; LatestRevisionNote: Re-released for DXP Platform.; DatasheetVersion: Jul-1996; PackageVersion: 1996; PackageReference: NPDIP8; Publisher: Altium Limited; PackageDescription: DIP; 8 Rectangular pins (4 Absent); Row Space 7.62 mm; Pitch 2.54 mm; ComponentLink1Description: Manufacturer Link; ComponentLink1URL: http://www.dc-dc.com/; ComponentLink2Description: Datasheet; ComponentLink2URL: http://www.cd4power.com/data/power/ncl/ndc_nma_3.pdf
footprint NPDIP8 (DIP; 8 Rectangular pins (4 Absent); Row Space 7.62 mm; Pitch 2.54 mm)
pins: 1 GND (power), 4 VIN (power), 5 +V (out), 7 0V (out)

## NME0512S
designator U?
Isolated 1W Single Output; Published: 8-Jun-2000; LatestRevisionDate: 17-Jul-2002; LatestRevisionNote: Re-released for DXP Platform.; DatasheetVersion: Jul-1996; PackageVersion: 1996; PackageReference: NPSIP4; Publisher: Altium Limited; PackageDescription: SIP; 4 Leads; Body 10 x 11.5 x 6 mm (typ); Pitch 2.54 mm; ComponentLink1Description: Manufacturer Link; ComponentLink1URL: http://www.dc-dc.com/; ComponentLink2Description: Datasheet; ComponentLink2URL: http://www.cd4power.com/data/power/ncl/ndc_nma_3.pdf
footprint NPSIP4 (SIP; 4 Leads; Body 10 x 11.5 x 6 mm (typ); Pitch 2.54 mm)
pins: 1 GND (power), 2 VIN (power), 3 0V (out), 4 +V (out)

## NME0512TM
designator U?
Isolated 1W Single Output Surface Mount; Note: Pin 14 is No Internal Connection (NC) pin and is not drawn.  Pins 2, 4, 5, 6 and 9-13 are not present.; Published: 8-Jun-2000; LatestRevisionDate: 13-Apr-2006; LatestRevisionNote: IPC-7351 Footprint Added.; DatasheetVersion: Jul-1996; PackageVersion: 1996; PackageReference: NPSOIC14; Publisher: Altium Limited; PackageDescription: 14-Pin (9 Absent) Small Outline Package 1.27 mm Pitch; ComponentLink1Description: Manufacturer Link; ComponentLink1URL: http://www.dc-dc.com/; ComponentLink2Description: Datasheet; ComponentLink2URL: http://www.cd4power.com/data/power/ncl/ndc_nme_3.pdf
footprint NPSOIC14_N (SOP, 14-Leads (9 Absent), Body 12.7x7.7mm, Pitch 1.27mm, IPC Medium Density)
footprint NPSOIC14_L (SOP, 14-Leads (9 Absent), Body 12.7x7.7mm, Pitch 1.27mm, IPC High Density)
footprint NPSOIC14_M (SOP, 14-Leads (9 Absent), Body 12.7x7.7mm, Pitch 1.27mm, IPC Low Density)
pins: 1 GND (power), 3 VIN (power), 7 0V (out), 8 +V (out)

## NME0515D
designator U?
Isolated 1W Single Output; Note: Pins 2, 3, 6 and 8 are not present.; Published: 8-Jun-2000; LatestRevisionDate: 17-Jul-2002; LatestRevisionNote: Re-released for DXP Platform.; DatasheetVersion: Jul-1996; PackageVersion: 1996; PackageReference: NPDIP8; Publisher: Altium Limited; PackageDescription: DIP; 8 Rectangular pins (4 Absent); Row Space 7.62 mm; Pitch 2.54 mm; ComponentLink1Description: Manufacturer Link; ComponentLink1URL: http://www.dc-dc.com/; ComponentLink2Description: Datasheet; ComponentLink2URL: http://www.cd4power.com/data/power/ncl/ndc_nma_3.pdf
footprint NPDIP8 (DIP; 8 Rectangular pins (4 Absent); Row Space 7.62 mm; Pitch 2.54 mm)
pins: 1 GND (power), 4 VIN (power), 5 +V (out), 7 0V (out)

## NME0515S
designator U?
Isolated 1W Single Output; Published: 8-Jun-2000; LatestRevisionDate: 17-Jul-2002; LatestRevisionNote: Re-released for DXP Platform.; DatasheetVersion: Jul-1996; PackageVersion: 1996; PackageReference: NPSIP4; Publisher: Altium Limited; PackageDescription: SIP; 4 Leads; Body 10 x 11.5 x 6 mm (typ); Pitch 2.54 mm; ComponentLink1Description: Manufacturer Link; ComponentLink1URL: http://www.dc-dc.com/; ComponentLink2Description: Datasheet; ComponentLink2URL: http://www.cd4power.com/data/power/ncl/ndc_nma_3.pdf
footprint NPSIP4 (SIP; 4 Leads; Body 10 x 11.5 x 6 mm (typ); Pitch 2.54 mm)
pins: 1 GND (power), 2 VIN (power), 3 0V (out), 4 +V (out)

## NME0515TM
designator U?
Isolated 1W Single Output Surface Mount; Note: Pin 14 is No Internal Connection (NC) pin and is not drawn.  Pins 2, 4, 5, 6 and 9-13 are not present.; Published: 8-Jun-2000; LatestRevisionDate: 13-Apr-2006; LatestRevisionNote: IPC-7351 Footprint Added.; DatasheetVersion: Jul-1996; PackageVersion: 1996; PackageReference: NPSOIC14; Publisher: Altium Limited; PackageDescription: 14-Pin (9 Absent) Small Outline Package 1.27 mm Pitch; ComponentLink1Description: Manufacturer Link; ComponentLink1URL: http://www.dc-dc.com/; ComponentLink2Description: Datasheet; ComponentLink2URL: http://www.cd4power.com/data/power/ncl/ndc_nme_3.pdf
footprint NPSOIC14_N (SOP, 14-Leads (9 Absent), Body 12.7x7.7mm, Pitch 1.27mm, IPC Medium Density)
footprint NPSOIC14_L (SOP, 14-Leads (9 Absent), Body 12.7x7.7mm, Pitch 1.27mm, IPC High Density)
footprint NPSOIC14_M (SOP, 14-Leads (9 Absent), Body 12.7x7.7mm, Pitch 1.27mm, IPC Low Density)
pins: 1 GND (power), 3 VIN (power), 7 0V (out), 8 +V (out)

## NME1205D
designator U?
Isolated 1W Single Output; Note: Pins 2, 3, 6 and 8 are not present.; Published: 8-Jun-2000; LatestRevisionDate: 17-Jul-2002; LatestRevisionNote: Re-released for DXP Platform.; DatasheetVersion: Jul-1996; PackageVersion: 1996; PackageReference: NPDIP8; Publisher: Altium Limited; PackageDescription: DIP; 8 Rectangular pins (4 Absent); Row Space 7.62 mm; Pitch 2.54 mm; ComponentLink1Description: Manufacturer Link; ComponentLink1URL: http://www.dc-dc.com/; ComponentLink2Description: Datasheet; ComponentLink2URL: http://www.cd4power.com/data/power/ncl/ndc_nma_3.pdf
footprint NPDIP8 (DIP; 8 Rectangular pins (4 Absent); Row Space 7.62 mm; Pitch 2.54 mm)
pins: 1 GND (power), 4 VIN (power), 5 +V (out), 7 0V (out)

## NME1205S
designator U?
Isolated 1W Single Output; Published: 8-Jun-2000; LatestRevisionDate: 17-Jul-2002; LatestRevisionNote: Re-released for DXP Platform.; DatasheetVersion: Jul-1996; PackageVersion: 1996; PackageReference: NPSIP4; Publisher: Altium Limited; PackageDescription: SIP; 4 Leads; Body 10 x 11.5 x 6 mm (typ); Pitch 2.54 mm; ComponentLink1Description: Manufacturer Link; ComponentLink1URL: http://www.dc-dc.com/; ComponentLink2Description: Datasheet; ComponentLink2URL: http://www.cd4power.com/data/power/ncl/ndc_nma_3.pdf
footprint NPSIP4 (SIP; 4 Leads; Body 10 x 11.5 x 6 mm (typ); Pitch 2.54 mm)
pins: 1 GND (power), 2 VIN (power), 3 0V (out), 4 +V (out)

## NME1205TM
designator U?
Isolated 1W Single Output Surface Mount; Note: Pin 14 is No Internal Connection (NC) pin and is not drawn.  Pins 2, 4, 5, 6 and 9-13 are not present.; Published: 8-Jun-2000; LatestRevisionDate: 13-Apr-2006; LatestRevisionNote: IPC-7351 Footprint Added.; DatasheetVersion: Jul-1996; PackageVersion: 1996; PackageReference: NPSOIC14; Publisher: Altium Limited; PackageDescription: 14-Pin (9 Absent) Small Outline Package 1.27 mm Pitch; ComponentLink1Description: Manufacturer Link; ComponentLink1URL: http://www.dc-dc.com/; ComponentLink2Description: Datasheet; ComponentLink2URL: http://www.cd4power.com/data/power/ncl/ndc_nme_3.pdf
footprint NPSOIC14_N (SOP, 14-Leads (9 Absent), Body 12.7x7.7mm, Pitch 1.27mm, IPC Medium Density)
footprint NPSOIC14_L (SOP, 14-Leads (9 Absent), Body 12.7x7.7mm, Pitch 1.27mm, IPC High Density)
footprint NPSOIC14_M (SOP, 14-Leads (9 Absent), Body 12.7x7.7mm, Pitch 1.27mm, IPC Low Density)
pins: 1 GND (power), 3 VIN (power), 7 0V (out), 8 +V (out)

## NME1209D
designator U?
Isolated 1W Single Output; Note: Pins 2, 3, 6 and 8 are not present.; Published: 8-Jun-2000; LatestRevisionDate: 17-Jul-2002; LatestRevisionNote: Re-released for DXP Platform.; DatasheetVersion: Jul-1996; PackageVersion: 1996; PackageReference: NPDIP8; Publisher: Altium Limited; PackageDescription: DIP; 8 Rectangular pins (4 Absent); Row Space 7.62 mm; Pitch 2.54 mm; ComponentLink1Description: Manufacturer Link; ComponentLink1URL: http://www.dc-dc.com/; ComponentLink2Description: Datasheet; ComponentLink2URL: http://www.cd4power.com/data/power/ncl/ndc_nma_3.pdf
footprint NPDIP8 (DIP; 8 Rectangular pins (4 Absent); Row Space 7.62 mm; Pitch 2.54 mm)
pins: 1 GND (power), 4 VIN (power), 5 +V (out), 7 0V (out)

## NME1209S
designator U?
Isolated 1W Single Output; Published: 8-Jun-2000; LatestRevisionDate: 17-Jul-2002; LatestRevisionNote: Re-released for DXP Platform.; DatasheetVersion: Jul-1996; PackageVersion: 1996; PackageReference: NPSIP4; Publisher: Altium Limited; PackageDescription: SIP; 4 Leads; Body 10 x 11.5 x 6 mm (typ); Pitch 2.54 mm; ComponentLink1Description: Manufacturer Link; ComponentLink1URL: http://www.dc-dc.com/; ComponentLink2Description: Datasheet; ComponentLink2URL: http://www.cd4power.com/data/power/ncl/ndc_nma_3.pdf
footprint NPSIP4 (SIP; 4 Leads; Body 10 x 11.5 x 6 mm (typ); Pitch 2.54 mm)
pins: 1 GND (power), 2 VIN (power), 3 0V (out), 4 +V (out)

## NME1209TM
designator U?
Isolated 1W Single Output Surface Mount; Note: Pin 14 is No Internal Connection (NC) pin and is not drawn.  Pins 2, 4, 5, 6 and 9-13 are not present.; Published: 8-Jun-2000; LatestRevisionDate: 13-Apr-2006; LatestRevisionNote: IPC-7351 Footprint Added.; DatasheetVersion: Jul-1996; PackageVersion: 1996; PackageReference: NPSOIC14; Publisher: Altium Limited; PackageDescription: 14-Pin (9 Absent) Small Outline Package 1.27 mm Pitch; ComponentLink1Description: Manufacturer Link; ComponentLink1URL: http://www.dc-dc.com/; ComponentLink2Description: Datasheet; ComponentLink2URL: http://www.cd4power.com/data/power/ncl/ndc_nme_3.pdf
footprint NPSOIC14_N (SOP, 14-Leads (9 Absent), Body 12.7x7.7mm, Pitch 1.27mm, IPC Medium Density)
footprint NPSOIC14_L (SOP, 14-Leads (9 Absent), Body 12.7x7.7mm, Pitch 1.27mm, IPC High Density)
footprint NPSOIC14_M (SOP, 14-Leads (9 Absent), Body 12.7x7.7mm, Pitch 1.27mm, IPC Low Density)
pins: 1 GND (power), 3 VIN (power), 7 0V (out), 8 +V (out)

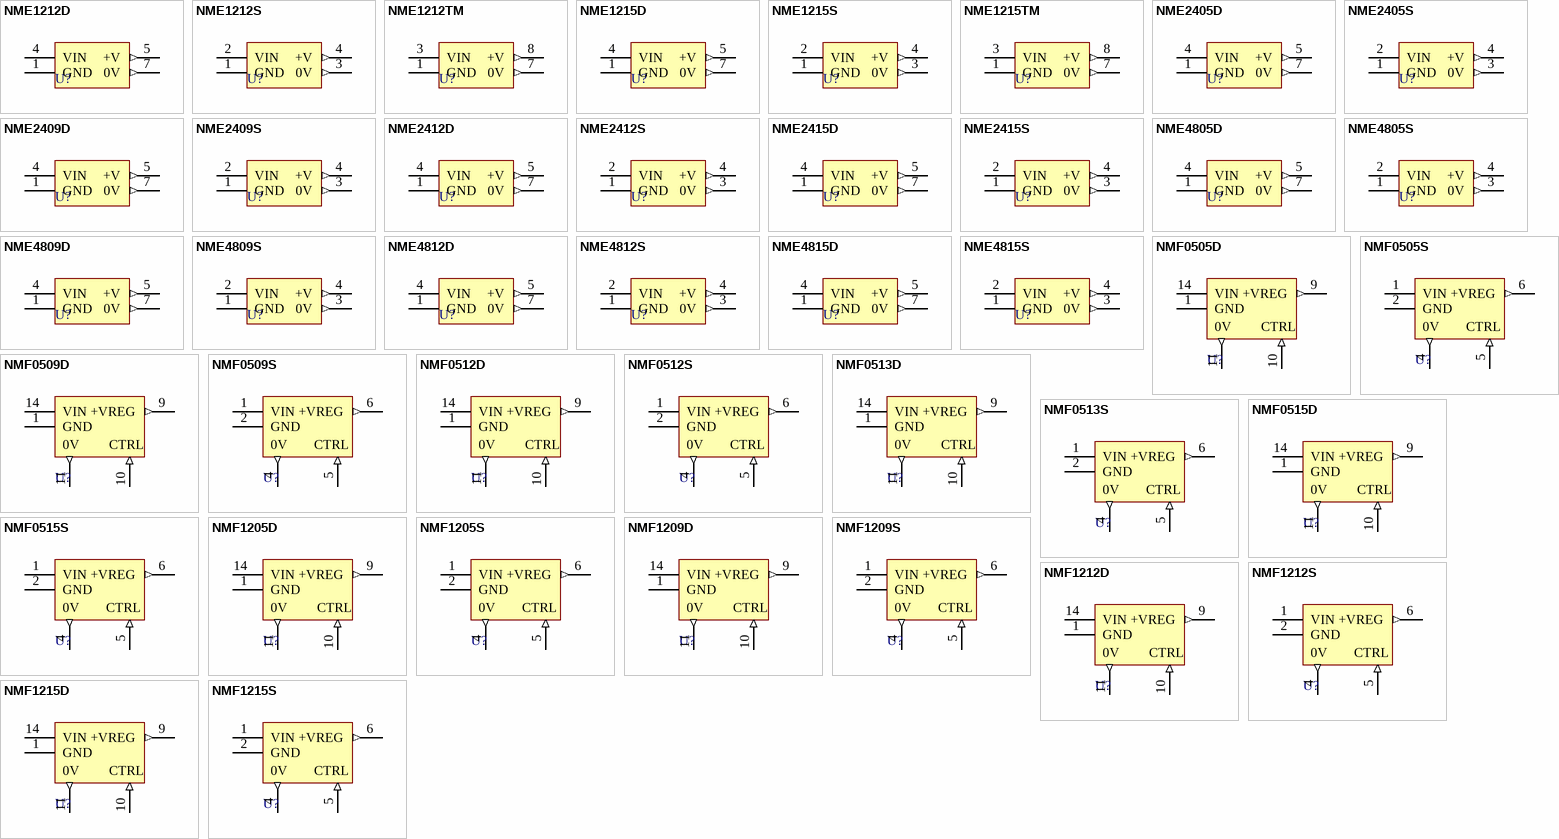
[diagram p3: symbols NME1212D to NMF1215S]

## NME1212D
designator U?
Isolated 1W Single Output; Note: Pins 2, 3, 6 and 8 are not present.; Published: 8-Jun-2000; LatestRevisionDate: 17-Jul-2002; LatestRevisionNote: Re-released for DXP Platform.; DatasheetVersion: Jul-1996; PackageVersion: 1996; PackageReference: NPDIP8; Publisher: Altium Limited; PackageDescription: DIP; 8 Rectangular pins (4 Absent); Row Space 7.62 mm; Pitch 2.54 mm; ComponentLink1Description: Manufacturer Link; ComponentLink1URL: http://www.dc-dc.com/; ComponentLink2Description: Datasheet; ComponentLink2URL: http://www.cd4power.com/data/power/ncl/ndc_nma_3.pdf
footprint NPDIP8 (DIP; 8 Rectangular pins (4 Absent); Row Space 7.62 mm; Pitch 2.54 mm)
pins: 1 GND (power), 4 VIN (power), 5 +V (out), 7 0V (out)

## NME1212S
designator U?
Isolated 1W Single Output; Published: 8-Jun-2000; LatestRevisionDate: 17-Jul-2002; LatestRevisionNote: Re-released for DXP Platform.; DatasheetVersion: Jul-1996; PackageVersion: 1996; PackageReference: NPSIP4; Publisher: Altium Limited; PackageDescription: SIP; 4 Leads; Body 10 x 11.5 x 6 mm (typ); Pitch 2.54 mm; ComponentLink1Description: Manufacturer Link; ComponentLink1URL: http://www.dc-dc.com/; ComponentLink2Description: Datasheet; ComponentLink2URL: http://www.cd4power.com/data/power/ncl/ndc_nma_3.pdf
footprint NPSIP4 (SIP; 4 Leads; Body 10 x 11.5 x 6 mm (typ); Pitch 2.54 mm)
pins: 1 GND (power), 2 VIN (power), 3 0V (out), 4 +V (out)

## NME1212TM
designator U?
Isolated 1W Single Output Surface Mount; Note: Pin 14 is No Internal Connection (NC) pin and is not drawn.  Pins 2, 4, 5, 6 and 9-13 are not present.; Published: 8-Jun-2000; LatestRevisionDate: 13-Apr-2006; LatestRevisionNote: IPC-7351 Footprint Added.; DatasheetVersion: Jul-1996; PackageVersion: 1996; PackageReference: NPSOIC14; Publisher: Altium Limited; PackageDescription: 14-Pin (9 Absent) Small Outline Package 1.27 mm Pitch; ComponentLink1Description: Manufacturer Link; ComponentLink1URL: http://www.dc-dc.com/; ComponentLink2Description: Datasheet; ComponentLink2URL: http://www.cd4power.com/data/power/ncl/ndc_nme_3.pdf
footprint NPSOIC14_N (SOP, 14-Leads (9 Absent), Body 12.7x7.7mm, Pitch 1.27mm, IPC Medium Density)
footprint NPSOIC14_L (SOP, 14-Leads (9 Absent), Body 12.7x7.7mm, Pitch 1.27mm, IPC High Density)
footprint NPSOIC14_M (SOP, 14-Leads (9 Absent), Body 12.7x7.7mm, Pitch 1.27mm, IPC Low Density)
pins: 1 GND (power), 3 VIN (power), 7 0V (out), 8 +V (out)

## NME1215D
designator U?
Isolated 1W Single Output; Note: Pins 2, 3, 6 and 8 are not present.; Published: 8-Jun-2000; LatestRevisionDate: 17-Jul-2002; LatestRevisionNote: Re-released for DXP Platform.; DatasheetVersion: Jul-1996; PackageVersion: 1996; PackageReference: NPDIP8; Publisher: Altium Limited; PackageDescription: DIP; 8 Rectangular pins (4 Absent); Row Space 7.62 mm; Pitch 2.54 mm; ComponentLink1Description: Manufacturer Link; ComponentLink1URL: http://www.dc-dc.com/; ComponentLink2Description: Datasheet; ComponentLink2URL: http://www.cd4power.com/data/power/ncl/ndc_nma_3.pdf
footprint NPDIP8 (DIP; 8 Rectangular pins (4 Absent); Row Space 7.62 mm; Pitch 2.54 mm)
pins: 1 GND (power), 4 VIN (power), 5 +V (out), 7 0V (out)

## NME1215S
designator U?
Isolated 1W Single Output; Published: 8-Jun-2000; LatestRevisionDate: 17-Jul-2002; LatestRevisionNote: Re-released for DXP Platform.; DatasheetVersion: Jul-1996; PackageVersion: 1996; PackageReference: NPSIP4; Publisher: Altium Limited; PackageDescription: SIP; 4 Leads; Body 10 x 11.5 x 6 mm (typ); Pitch 2.54 mm; ComponentLink1Description: Manufacturer Link; ComponentLink1URL: http://www.dc-dc.com/; ComponentLink2Description: Datasheet; ComponentLink2URL: http://www.cd4power.com/data/power/ncl/ndc_nma_3.pdf
footprint NPSIP4 (SIP; 4 Leads; Body 10 x 11.5 x 6 mm (typ); Pitch 2.54 mm)
pins: 1 GND (power), 2 VIN (power), 3 0V (out), 4 +V (out)